# EAGLE library part LM3488 (library dash_power_supply)
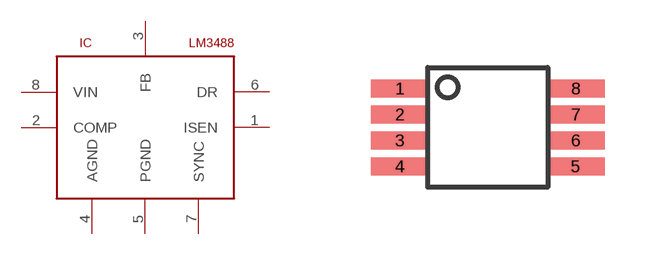
[diagram p1: symbol with the pads of VSSOP-8; footprint VSSOP-8]

Designator prefix IC

## LM3488  [VSSOP-8]
1  ISEN
2  COMP
3  FB
4  AGND
5  PGND
6  DR
7  SYNC
8  VIN

## Footprint VSSOP-8 (pad centres in mm)
smd 1.45 x 0.45: 1 -2.2,0.975; 2 -2.2,0.325; 3 -2.2,-0.325; 4 -2.2,-0.975; 5 2.2,-0.975; 6 2.2,-0.325; 7 2.2,0.325; 8 2.2,0.975